# EAGLE library part 61307221821 (library Wurth_Elektronik2)
WR-PHD 2.54mm Dual Socket Header, 72 Pins =>Code : Con_BTB_SHD_2.54_2_61307221821 <http://katalog.we-online.de/media/images/eican/Con_BTB_SHD_2.54_2_6130xx21821_pf2.jpg> Details see: http://katalog.we-online.de/en/em/613_0xx_218_21 Created 2014-05-29, Karrer Zheng 2014 (C) Würth Elektronik
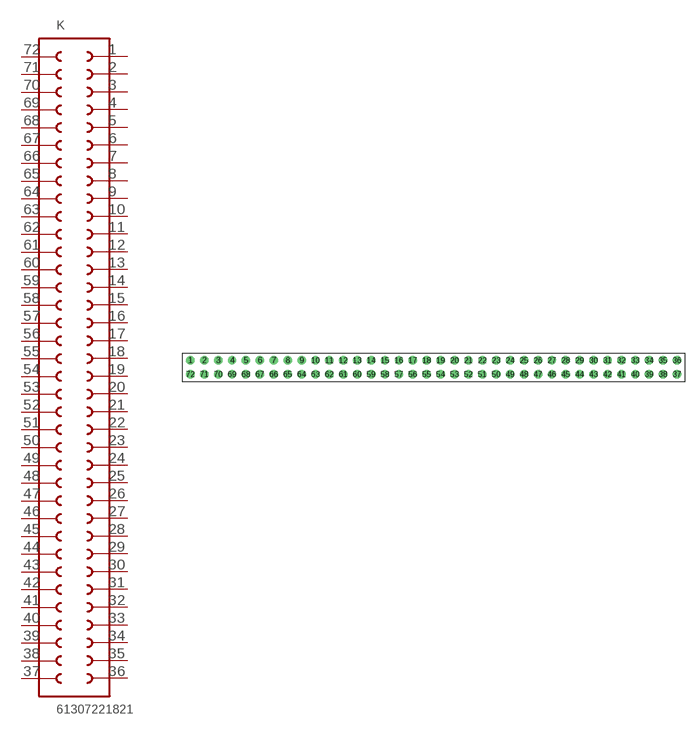
[diagram p128: symbol with the pads of 61307221821; footprint 61307221821]

Designator prefix K

## 61307221821  [61307221821]
1  1  pas
2  2  pas
3  3  pas
4  4  pas
5  5  pas
6  6  pas
7  7  pas
8  8  pas
9  9  pas
10  10  pas
11  11  pas
12  12  pas
13  13  pas
14  14  pas
15  15  pas
16  16  pas
17  17  pas
18  18  pas
19  19  pas
20  20  pas
21  21  pas
22  22  pas
23  23  pas
24  24  pas
25  25  pas
26  26  pas
27  27  pas
28  28  pas
29  29  pas
30  30  pas
31  31  pas
32  32  pas
33  33  pas
34  34  pas
35  35  pas
36  36  pas
37  37  pas
38  38  pas
39  39  pas
40  40  pas
41  41  pas
42  42  pas
43  43  pas
44  44  pas
45  45  pas
46  46  pas
47  47  pas
48  48  pas
49  49  pas
50  50  pas
51  51  pas
52  52  pas
53  53  pas
54  54  pas
55  55  pas
56  56  pas
57  57  pas
58  58  pas
59  59  pas
60  60  pas
61  61  pas
62  62  pas
63  63  pas
64  64  pas
65  65  pas
66  66  pas
67  67  pas
68  68  pas
69  69  pas
70  70  pas
71  71  pas
72  72  pas

## Footprint 61307221821 (pad centres in mm)
WR-PHD 2.54mm Dual Socket Header, 72 Pins
drill 1.02: 1 -44.45,1.27; 2 -41.91,1.27; 3 -39.37,1.27; 4 -36.83,1.27; 5 -34.29,1.27; 6 -31.75,1.27; 7 -29.21,1.27; 8 -26.67,1.27; 9 -24.13,1.27; 10 -21.59,1.27; 11 -19.05,1.27; 12 -16.51,1.27; 13 -13.97,1.27; 14 -11.43,1.27; 15 -8.89,1.27; 16 -6.35,1.27; 17 -3.81,1.27; 18 -1.27,1.27; 19 1.27,1.27; 20 3.81,1.27; 21 6.35,1.27; 22 8.89,1.27; 23 11.43,1.27; 24 13.97,1.27; 25 16.51,1.27; 26 19.05,1.27; 27 21.59,1.27; 28 24.13,1.27; 29 26.67,1.27; 30 29.21,1.27; 31 31.75,1.27; 32 34.29,1.27; 33 36.83,1.27; 34 39.37,1.27; 35 41.91,1.27; 36 44.45,1.27; 37 44.45,-1.27; 38 41.91,-1.27; 39 39.37,-1.27; 40 36.83,-1.27; 41 34.29,-1.27; 42 31.75,-1.27; 43 29.21,-1.27; 44 26.67,-1.27; 45 24.13,-1.27; 46 21.59,-1.27; 47 19.05,-1.27; 48 16.51,-1.27; 49 13.97,-1.27; 50 11.43,-1.27; 51 8.89,-1.27; 52 6.35,-1.27; 53 3.81,-1.27; 54 1.27,-1.27; 55 -1.27,-1.27; 56 -3.81,-1.27; 57 -6.35,-1.27; 58 -8.89,-1.27; 59 -11.43,-1.27; 60 -13.97,-1.27; 61 -16.51,-1.27; 62 -19.05,-1.27; 63 -21.59,-1.27; 64 -24.13,-1.27; 65 -26.67,-1.27; 66 -29.21,-1.27; 67 -31.75,-1.27; 68 -34.29,-1.27; 69 -36.83,-1.27; 70 -39.37,-1.27; 71 -41.91,-1.27; 72 -44.45,-1.27